# Altium schematic symbol library 87427-0602.SchLib: 1 symbol
Pins are listed as number, name and electrical type; pins without a type are passive.

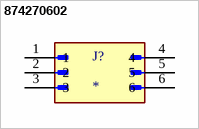
[diagram p0: symbol 874270602]

## 874270602
designator J?
MF: {'manufacturer': u'Molex'}; MP: 874270602; Package: None; Price: None; Value: *; Availability: Unavailable
footprint MOLEX_874270602
pins: 1, 2, 3, 4, 5, 6